# Altium footprint library Connector_IDC.PcbLib: 182 footprints (part 6 of 12)
Each footprint in its own frame and in the unit in brackets; x right, y up, seen from the top. Pads: shape width x height; smd on the part's side, far side on the other; paste and mask are expansions set on the pad; w line width, h text height; cw(c..) or ccw(c..) is an arc to the next point about the centre after c.
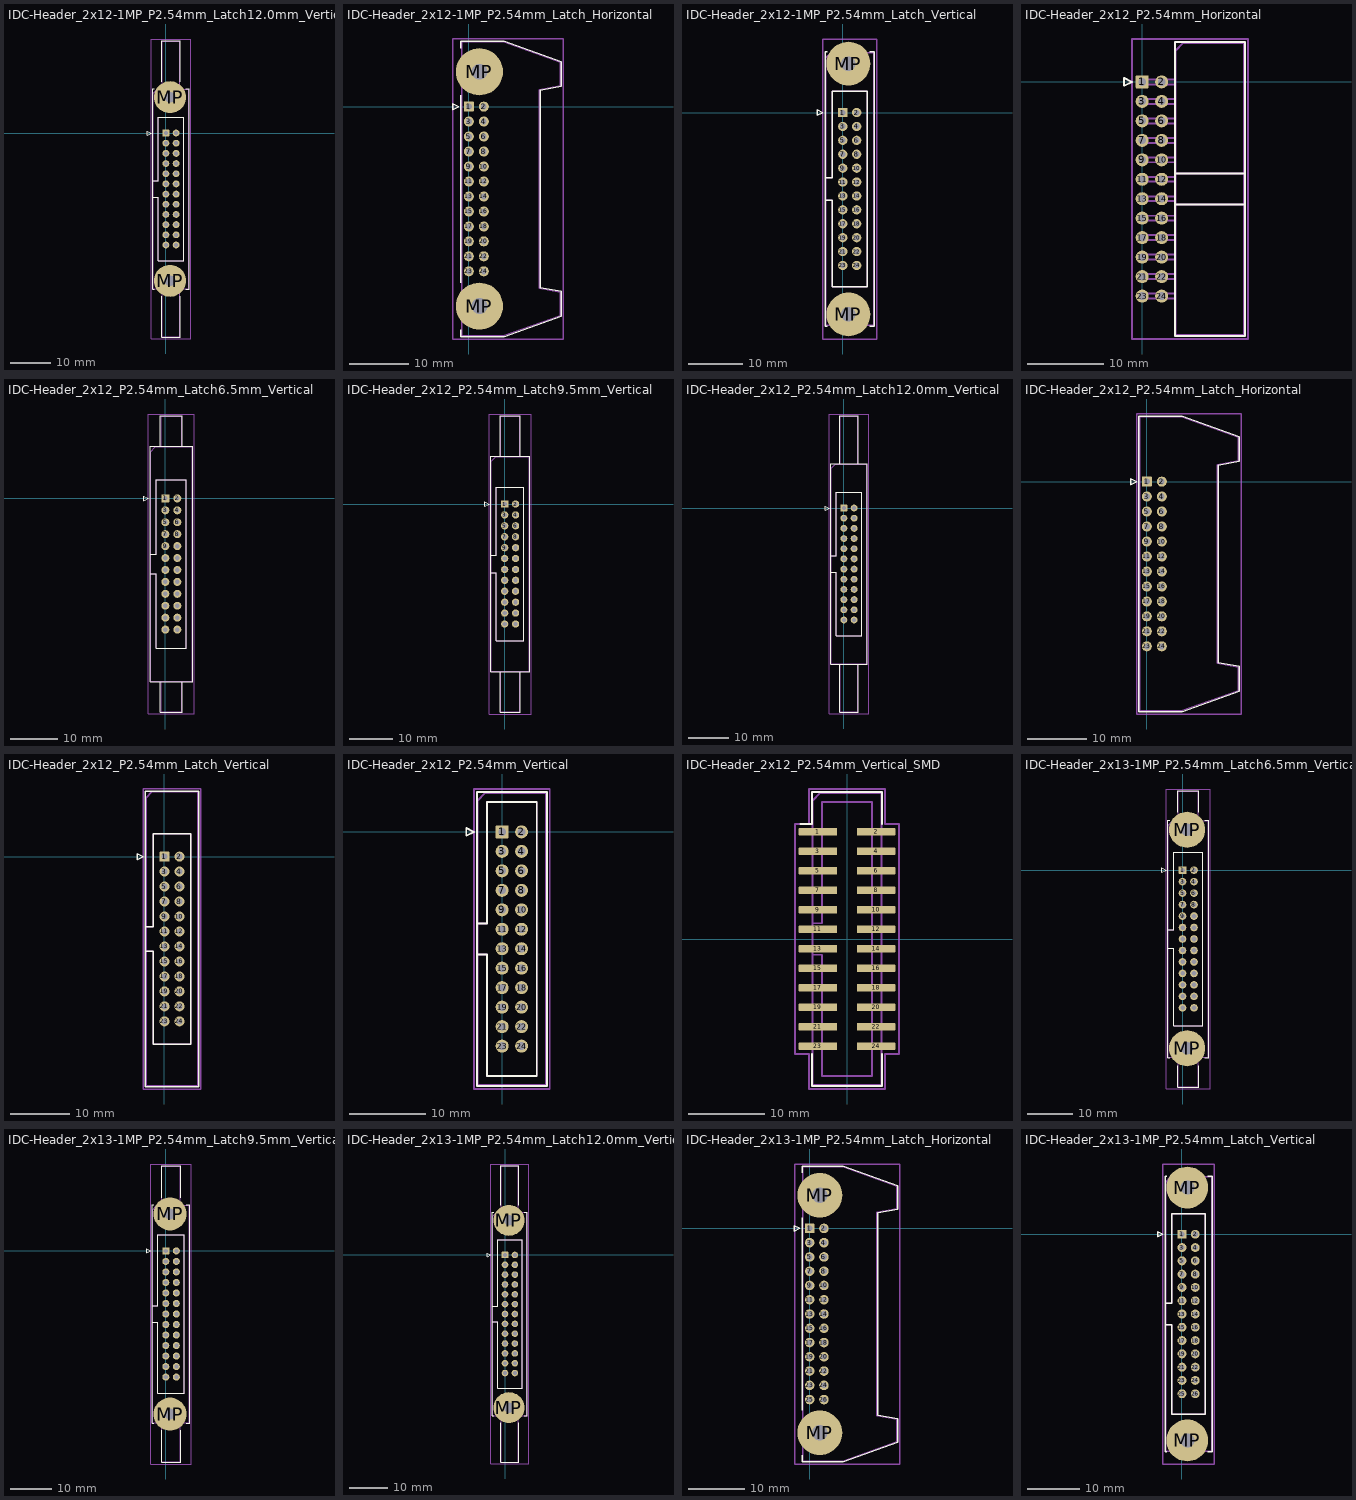
[diagram p5: the footprints below, top view; thin cyan lines are the x and y axes]

## IDC-Header_2x12-1MP_P2.54mm_Latch12.0mm_Vertical [mm]
pads (26):
  rrect15% 1.7x1.7 hole 1: 1(0,0)
  round 1.7 hole 1: 2(2.54,0) 3(0,-2.54) 4(2.54,-2.54) 5(0,-5.08) 6(2.54,-5.08) 7(0,-7.62) 8(2.54,-7.62) 9(0,-10.16) 10(2.54,-10.16) 11(0,-12.7) 12(2.54,-12.7) 13(0,-15.24) 14(2.54,-15.24) 15(0,-17.78) 16(2.54,-17.78) 17(0,-20.32) 18(2.54,-20.32) 19(0,-22.86) 20(2.54,-22.86) 21(0,-25.4) 22(2.54,-25.4) 23(0,-27.94) 24(2.54,-27.94)
  round 8 hole 2.69: MP(1.02,-36.88) MP(1.02,8.94)
F.SilkS:
  lines w0.254: -3.24,-16.02 -1.93,-16.02 -1.93,-31.86 4.47,-31.86 4.47,3.92 -1.93,3.92 -1.93,-11.92 -3.24,-11.92 ; -2.87,-39.02 -3.24,-39.02 -3.24,11.08 -2.87,11.08 ; -1.04,-40.77 -1.04,-51.02 3.58,-51.02 3.58,-40.77 ; -1.04,12.83 -1.04,23.08 3.58,23.08 3.58,12.83 ; 4.91,-39.02 5.78,-39.02 5.78,11.08 4.91,11.08 ; -4.63,-0.5 -3.63,0 -4.63,0.5 -4.63,-0.5
Top Assembly:
  lines w0.254: -3.13,-16.02 -1.93,-16.02 -1.93,-31.86 4.47,-31.86 4.47,3.92 -1.93,3.92 -1.93,-11.92 -3.13,-11.92 ; -0.93,-38.91 -0.93,-50.91 3.47,-50.91 3.47,-38.91 ; -0.93,10.97 -0.93,22.97 3.47,22.97 3.47,10.97 ; -3.13,-38.91 5.67,-38.91 5.67,10.97 -2.13,10.97 -3.13,9.97 -3.13,-38.91
  text "'.Designator'" at 2.11,-18.017 h1
Top Courtyard:
  lines w0.254: -3.63,-51.41 6.17,-51.41 6.17,23.47 -3.63,23.47 -3.63,-51.41
Top Designator:
  text ".Designator" at -6.848,-14.478 h1.52

## IDC-Header_2x12-1MP_P2.54mm_Latch_Horizontal [mm]
pads (26):
  rrect15% 1.7x1.7 hole 1: 1(0,0)
  round 1.7 hole 1: 2(2.54,0) 3(0,-2.54) 4(2.54,-2.54) 5(0,-5.08) 6(2.54,-5.08) 7(0,-7.62) 8(2.54,-7.62) 9(0,-10.16) 10(2.54,-10.16) 11(0,-12.7) 12(2.54,-12.7) 13(0,-15.24) 14(2.54,-15.24) 15(0,-17.78) 16(2.54,-17.78) 17(0,-20.32) 18(2.54,-20.32) 19(0,-22.86) 20(2.54,-22.86) 21(0,-25.4) 22(2.54,-25.4) 23(0,-27.94) 24(2.54,-27.94)
  round 8 hole 2.69: MP(1.8,-33.845) MP(1.8,5.905)
F.SilkS:
  lines w0.254: -1.35,-37.845 -1.35,-39.02 5.98,-39.02 15.64,-35.55 15.64,-31.36 12.08,-30.73 12.08,2.79 15.64,3.42 15.64,7.61 5.98,11.08 -1.35,11.08 -1.35,9.905 ; -1.35,-29.845 -1.35,1.905 ; -2.74,-0.5 -1.74,0 -2.74,0.5 -2.74,-0.5
Top Assembly:
  lines w0.254: -1.24,-38.91 5.87,-38.91 15.53,-35.44 15.53,-31.47 11.97,-30.84 11.97,2.9 15.53,3.53 15.53,7.5 5.87,10.97 -1.24,10.97 -1.24,-38.91
  text "'.Designator'" at 7.985,-18.017 h1
Top Courtyard:
  lines w0.254: -2.7,-39.42 16.03,-39.42 16.03,11.47 -2.7,11.47 -2.7,-39.42
Top Designator:
  text ".Designator" at -0.973,-14.483 h1.52

## IDC-Header_2x12-1MP_P2.54mm_Latch_Vertical [mm]
pads (26):
  rrect15% 1.7x1.7 hole 1: 1(0,0)
  round 1.7 hole 1: 2(2.54,0) 3(0,-2.54) 4(2.54,-2.54) 5(0,-5.08) 6(2.54,-5.08) 7(0,-7.62) 8(2.54,-7.62) 9(0,-10.16) 10(2.54,-10.16) 11(0,-12.7) 12(2.54,-12.7) 13(0,-15.24) 14(2.54,-15.24) 15(0,-17.78) 16(2.54,-17.78) 17(0,-20.32) 18(2.54,-20.32) 19(0,-22.86) 20(2.54,-22.86) 21(0,-25.4) 22(2.54,-25.4) 23(0,-27.94) 24(2.54,-27.94)
  round 8 hole 2.69: MP(1.02,-36.88) MP(1.02,8.94)
F.SilkS:
  lines w0.254: -3.24,-16.02 -1.93,-16.02 -1.93,-31.86 4.47,-31.86 4.47,3.92 -1.93,3.92 -1.93,-11.92 -3.24,-11.92 ; -2.87,-39.02 -3.24,-39.02 -3.24,11.08 -2.87,11.08 ; 4.91,-39.02 5.78,-39.02 5.78,11.08 4.91,11.08 ; -4.63,-0.5 -3.63,0 -4.63,0.5 -4.63,-0.5
Top Assembly:
  lines w0.254: -3.13,-16.02 -1.93,-16.02 -1.93,-31.86 4.47,-31.86 4.47,3.92 -1.93,3.92 -1.93,-11.92 -3.13,-11.92 ; -3.13,-38.91 5.67,-38.91 5.67,10.97 -2.13,10.97 -3.13,9.97 -3.13,-38.91
  text "'.Designator'" at 2.11,-18.017 h1
Top Courtyard:
  lines w0.254: -3.63,-41.38 6.17,-41.38 6.17,13.44 -3.63,13.44 -3.63,-41.38
Top Designator:
  text ".Designator" at -6.848,-14.478 h1.52

## IDC-Header_2x12_P2.54mm_Horizontal [mm]
pads (24):
  rrect15% 1.7x1.7 hole 1: 1(0,0)
  round 1.7 hole 1: 2(2.54,0) 3(0,-2.54) 4(2.54,-2.54) 5(0,-5.08) 6(2.54,-5.08) 7(0,-7.62) 8(2.54,-7.62) 9(0,-10.16) 10(2.54,-10.16) 11(0,-12.7) 12(2.54,-12.7) 13(0,-15.24) 14(2.54,-15.24) 15(0,-17.78) 16(2.54,-17.78) 17(0,-20.32) 18(2.54,-20.32) 19(0,-22.86) 20(2.54,-22.86) 21(0,-25.4) 22(2.54,-25.4) 23(0,-27.94) 24(2.54,-27.94)
F.SilkS:
  lines w0.254: 4.27,-16.02 13.39,-16.02 ; 4.27,-11.92 13.39,-11.92 ; -2.35,-0.5 -1.35,0 -2.35,0.5 -2.35,-0.5 ; 4.27,-33.15 13.39,-33.15 13.39,5.21 4.27,5.21 4.27,-33.15
Top Assembly:
  lines w0.254: 4.38,-28.26 -0.32,-28.26 -0.32,-27.62 4.38,-27.62 ; 4.38,-25.72 -0.32,-25.72 -0.32,-25.08 4.38,-25.08 ; 4.38,-23.18 -0.32,-23.18 -0.32,-22.54 4.38,-22.54 ; 4.38,-20.64 -0.32,-20.64 -0.32,-20 4.38,-20 ; 4.38,-18.1 -0.32,-18.1 -0.32,-17.46 4.38,-17.46 ; 4.38,-16.02 13.28,-16.02 ; 4.38,-15.56 -0.32,-15.56 -0.32,-14.92 4.38,-14.92 ; 4.38,-13.02 -0.32,-13.02 -0.32,-12.38 4.38,-12.38 ; 4.38,-11.92 13.28,-11.92 ; 4.38,-10.48 -0.32,-10.48 -0.32,-9.84 4.38,-9.84 ; 4.38,-7.94 -0.32,-7.94 -0.32,-7.3 4.38,-7.3 ; 4.38,-5.4 -0.32,-5.4 -0.32,-4.76 4.38,-4.76 ; 4.38,-2.86 -0.32,-2.86 -0.32,-2.22 4.38,-2.22 ; 4.38,-0.32 -0.32,-0.32 -0.32,0.32 4.38,0.32 ; 4.38,-33.04 13.28,-33.04 13.28,5.1 5.38,5.1 4.38,4.1 4.38,-33.04
  text "'.Designator'" at 9.67,-18.017 h1
Top Courtyard:
  lines w0.254: -1.35,-33.54 13.78,-33.54 13.78,5.6 -1.35,5.6 -1.35,-33.54
Top Designator:
  text ".Designator" at -1.903,-14.478 h1.52

## IDC-Header_2x12_P2.54mm_Latch6.5mm_Vertical [mm]
pads (24):
  rrect15% 1.7x1.7 hole 1: 1(0,0)
  round 1.7 hole 1: 2(2.54,0) 3(0,-2.54) 4(2.54,-2.54) 5(0,-5.08) 6(2.54,-5.08) 7(0,-7.62) 8(2.54,-7.62) 9(0,-10.16) 10(2.54,-10.16) 11(0,-12.7) 12(2.54,-12.7) 13(0,-15.24) 14(2.54,-15.24) 15(0,-17.78) 16(2.54,-17.78) 17(0,-20.32) 18(2.54,-20.32) 19(0,-22.86) 20(2.54,-22.86) 21(0,-25.4) 22(2.54,-25.4) 23(0,-27.94) 24(2.54,-27.94)
F.SilkS:
  lines w0.254: -3.24,-16.02 -1.93,-16.02 -1.93,-31.86 4.47,-31.86 4.47,3.92 -1.93,3.92 -1.93,-11.92 -3.24,-11.92 ; -1.04,-39.02 -1.04,-45.52 3.58,-45.52 3.58,-39.02 ; -1.04,11.08 -1.04,17.58 3.58,17.58 3.58,11.08 ; -4.63,-0.5 -3.63,0 -4.63,0.5 -4.63,-0.5 ; -3.24,-39.02 5.78,-39.02 5.78,11.08 -3.24,11.08 -3.24,-39.02
Top Assembly:
  lines w0.254: -3.13,-16.02 -1.93,-16.02 -1.93,-31.86 4.47,-31.86 4.47,3.92 -1.93,3.92 -1.93,-11.92 -3.13,-11.92 ; -0.93,-38.91 -0.93,-45.41 3.47,-45.41 3.47,-38.91 ; -0.93,10.97 -0.93,17.47 3.47,17.47 3.47,10.97 ; -3.13,-38.91 5.67,-38.91 5.67,10.97 -2.13,10.97 -3.13,9.97 -3.13,-38.91
  text "'.Designator'" at 2.11,-18.017 h1
Top Courtyard:
  lines w0.254: -3.63,-45.91 6.17,-45.91 6.17,17.97 -3.63,17.97 -3.63,-45.91
Top Designator:
  text ".Designator" at -6.848,-14.478 h1.52

## IDC-Header_2x12_P2.54mm_Latch9.5mm_Vertical [mm]
pads (24):
  rrect15% 1.7x1.7 hole 1: 1(0,0)
  round 1.7 hole 1: 2(2.54,0) 3(0,-2.54) 4(2.54,-2.54) 5(0,-5.08) 6(2.54,-5.08) 7(0,-7.62) 8(2.54,-7.62) 9(0,-10.16) 10(2.54,-10.16) 11(0,-12.7) 12(2.54,-12.7) 13(0,-15.24) 14(2.54,-15.24) 15(0,-17.78) 16(2.54,-17.78) 17(0,-20.32) 18(2.54,-20.32) 19(0,-22.86) 20(2.54,-22.86) 21(0,-25.4) 22(2.54,-25.4) 23(0,-27.94) 24(2.54,-27.94)
F.SilkS:
  lines w0.254: -3.24,-16.02 -1.93,-16.02 -1.93,-31.86 4.47,-31.86 4.47,3.92 -1.93,3.92 -1.93,-11.92 -3.24,-11.92 ; -1.04,-39.02 -1.04,-48.52 3.58,-48.52 3.58,-39.02 ; -1.04,11.08 -1.04,20.58 3.58,20.58 3.58,11.08 ; -4.63,-0.5 -3.63,0 -4.63,0.5 -4.63,-0.5 ; -3.24,-39.02 5.78,-39.02 5.78,11.08 -3.24,11.08 -3.24,-39.02
Top Assembly:
  lines w0.254: -3.13,-16.02 -1.93,-16.02 -1.93,-31.86 4.47,-31.86 4.47,3.92 -1.93,3.92 -1.93,-11.92 -3.13,-11.92 ; -0.93,-38.91 -0.93,-48.41 3.47,-48.41 3.47,-38.91 ; -0.93,10.97 -0.93,20.47 3.47,20.47 3.47,10.97 ; -3.13,-38.91 5.67,-38.91 5.67,10.97 -2.13,10.97 -3.13,9.97 -3.13,-38.91
  text "'.Designator'" at 2.11,-18.017 h1
Top Courtyard:
  lines w0.254: -3.63,-48.91 6.17,-48.91 6.17,20.97 -3.63,20.97 -3.63,-48.91
Top Designator:
  text ".Designator" at -6.848,-14.478 h1.52

## IDC-Header_2x12_P2.54mm_Latch12.0mm_Vertical [mm]
pads (24):
  rrect15% 1.7x1.7 hole 1: 1(0,0)
  round 1.7 hole 1: 2(2.54,0) 3(0,-2.54) 4(2.54,-2.54) 5(0,-5.08) 6(2.54,-5.08) 7(0,-7.62) 8(2.54,-7.62) 9(0,-10.16) 10(2.54,-10.16) 11(0,-12.7) 12(2.54,-12.7) 13(0,-15.24) 14(2.54,-15.24) 15(0,-17.78) 16(2.54,-17.78) 17(0,-20.32) 18(2.54,-20.32) 19(0,-22.86) 20(2.54,-22.86) 21(0,-25.4) 22(2.54,-25.4) 23(0,-27.94) 24(2.54,-27.94)
F.SilkS:
  lines w0.254: -3.24,-16.02 -1.93,-16.02 -1.93,-31.86 4.47,-31.86 4.47,3.92 -1.93,3.92 -1.93,-11.92 -3.24,-11.92 ; -1.04,-39.02 -1.04,-51.02 3.58,-51.02 3.58,-39.02 ; -1.04,11.08 -1.04,23.08 3.58,23.08 3.58,11.08 ; -4.63,-0.5 -3.63,0 -4.63,0.5 -4.63,-0.5 ; -3.24,-39.02 5.78,-39.02 5.78,11.08 -3.24,11.08 -3.24,-39.02
Top Assembly:
  lines w0.254: -3.13,-16.02 -1.93,-16.02 -1.93,-31.86 4.47,-31.86 4.47,3.92 -1.93,3.92 -1.93,-11.92 -3.13,-11.92 ; -0.93,-38.91 -0.93,-50.91 3.47,-50.91 3.47,-38.91 ; -0.93,10.97 -0.93,22.97 3.47,22.97 3.47,10.97 ; -3.13,-38.91 5.67,-38.91 5.67,10.97 -2.13,10.97 -3.13,9.97 -3.13,-38.91
  text "'.Designator'" at 2.11,-18.017 h1
Top Courtyard:
  lines w0.254: -3.63,-51.41 6.17,-51.41 6.17,23.47 -3.63,23.47 -3.63,-51.41
Top Designator:
  text ".Designator" at -6.848,-14.478 h1.52

## IDC-Header_2x12_P2.54mm_Latch_Horizontal [mm]
pads (24):
  rrect15% 1.7x1.7 hole 1: 1(0,0)
  round 1.7 hole 1: 2(2.54,0) 3(0,-2.54) 4(2.54,-2.54) 5(0,-5.08) 6(2.54,-5.08) 7(0,-7.62) 8(2.54,-7.62) 9(0,-10.16) 10(2.54,-10.16) 11(0,-12.7) 12(2.54,-12.7) 13(0,-15.24) 14(2.54,-15.24) 15(0,-17.78) 16(2.54,-17.78) 17(0,-20.32) 18(2.54,-20.32) 19(0,-22.86) 20(2.54,-22.86) 21(0,-25.4) 22(2.54,-25.4) 23(0,-27.94) 24(2.54,-27.94)
F.SilkS:
  lines w0.254: -2.74,-0.5 -1.74,0 -2.74,0.5 -2.74,-0.5 ; -1.35,-39.02 5.98,-39.02 15.64,-35.55 15.64,-31.36 12.08,-30.73 12.08,2.79 15.64,3.42 15.64,7.61 5.98,11.08 -1.35,11.08 -1.35,-39.02
Top Assembly:
  lines w0.254: -1.24,-38.91 5.87,-38.91 15.53,-35.44 15.53,-31.47 11.97,-30.84 11.97,2.9 15.53,3.53 15.53,7.5 5.87,10.97 -1.24,10.97 -1.24,-38.91
  text "'.Designator'" at 7.985,-18.017 h1
Top Courtyard:
  lines w0.254: -1.74,-39.42 16.03,-39.42 16.03,11.47 -1.74,11.47 -1.74,-39.42
Top Designator:
  text ".Designator" at -0.973,-14.483 h1.52

## IDC-Header_2x12_P2.54mm_Latch_Vertical [mm]
pads (24):
  rrect15% 1.7x1.7 hole 1: 1(0,0)
  round 1.7 hole 1: 2(2.54,0) 3(0,-2.54) 4(2.54,-2.54) 5(0,-5.08) 6(2.54,-5.08) 7(0,-7.62) 8(2.54,-7.62) 9(0,-10.16) 10(2.54,-10.16) 11(0,-12.7) 12(2.54,-12.7) 13(0,-15.24) 14(2.54,-15.24) 15(0,-17.78) 16(2.54,-17.78) 17(0,-20.32) 18(2.54,-20.32) 19(0,-22.86) 20(2.54,-22.86) 21(0,-25.4) 22(2.54,-25.4) 23(0,-27.94) 24(2.54,-27.94)
F.SilkS:
  lines w0.254: -3.24,-16.02 -1.93,-16.02 -1.93,-31.86 4.47,-31.86 4.47,3.92 -1.93,3.92 -1.93,-11.92 -3.24,-11.92 ; -4.63,-0.5 -3.63,0 -4.63,0.5 -4.63,-0.5 ; -3.24,-39.02 5.78,-39.02 5.78,11.08 -3.24,11.08 -3.24,-39.02
Top Assembly:
  lines w0.254: -3.13,-16.02 -1.93,-16.02 -1.93,-31.86 4.47,-31.86 4.47,3.92 -1.93,3.92 -1.93,-11.92 -3.13,-11.92 ; -3.13,-38.91 5.67,-38.91 5.67,10.97 -2.13,10.97 -3.13,9.97 -3.13,-38.91
  text "'.Designator'" at 2.11,-18.017 h1
Top Courtyard:
  lines w0.254: -3.63,-39.42 6.17,-39.42 6.17,11.47 -3.63,11.47 -3.63,-39.42
Top Designator:
  text ".Designator" at -6.848,-14.483 h1.52

## IDC-Header_2x12_P2.54mm_Vertical [mm]
pads (24):
  rrect15% 1.7x1.7 hole 1: 1(0,0)
  round 1.7 hole 1: 2(2.54,0) 3(0,-2.54) 4(2.54,-2.54) 5(0,-5.08) 6(2.54,-5.08) 7(0,-7.62) 8(2.54,-7.62) 9(0,-10.16) 10(2.54,-10.16) 11(0,-12.7) 12(2.54,-12.7) 13(0,-15.24) 14(2.54,-15.24) 15(0,-17.78) 16(2.54,-17.78) 17(0,-20.32) 18(2.54,-20.32) 19(0,-22.86) 20(2.54,-22.86) 21(0,-25.4) 22(2.54,-25.4) 23(0,-27.94) 24(2.54,-27.94)
F.SilkS:
  lines w0.254: -3.29,-16.02 -1.98,-16.02 -1.98,-31.85 4.52,-31.85 4.52,3.91 -1.98,3.91 -1.98,-11.92 -3.29,-11.92 ; -4.68,-0.5 -3.68,0 -4.68,0.5 -4.68,-0.5 ; -3.29,-33.15 5.83,-33.15 5.83,5.21 -3.29,5.21 -3.29,-33.15
Top Assembly:
  lines w0.254: -3.18,-16.02 -1.98,-16.02 -1.98,-31.85 4.52,-31.85 4.52,3.91 -1.98,3.91 -1.98,-11.92 -3.18,-11.92 ; -3.18,-33.04 5.72,-33.04 5.72,5.1 -2.18,5.1 -3.18,4.1 -3.18,-33.04
  text "'.Designator'" at 2.11,-18.017 h1
Top Courtyard:
  lines w0.254: -3.68,-33.54 6.22,-33.54 6.22,5.6 -3.68,5.6 -3.68,-33.54
Top Designator:
  text ".Designator" at -6.848,-14.478 h1.52

## IDC-Header_2x12_P2.54mm_Vertical_SMD [mm]
pads (24):
  rrect25% 5x1.02 smd: 1(-3.8,13.97) 2(3.8,13.97) 3(-3.8,11.43) 4(3.8,11.43) 5(-3.8,8.89) 6(3.8,8.89) 7(-3.8,6.35) 8(3.8,6.35) 9(-3.8,3.81) 10(3.8,3.81) 11(-3.8,1.27) 12(3.8,1.27) 13(-3.8,-1.27) 14(3.8,-1.27) 15(-3.8,-3.81) 16(3.8,-3.81) 17(-3.8,-6.35) 18(3.8,-6.35) 19(-3.8,-8.89) 20(3.8,-8.89) 21(-3.8,-11.43) 22(3.8,-11.43) 23(-3.8,-13.97) 24(3.8,-13.97)
F.SilkS:
  lines w0.254: -6.085,14.98 -4.585,14.98 -4.585,19.16 4.585,19.16 4.585,14.98 ; -4.585,-14.98 -4.585,-19.16 4.585,-19.16 4.585,-14.98
Top Assembly:
  lines w0.254: -4.475,-2.05 -3.275,-2.05 -3.275,-17.85 3.275,-17.85 3.275,17.85 -3.275,17.85 -3.275,2.05 -4.475,2.05 ; -4.475,-19.05 4.475,-19.05 4.475,19.05 -3.475,19.05 -4.475,18.05 -4.475,-19.05
  text "'.Designator'" at 0.84,-4.047 h1
Top Courtyard:
  lines w0.254: -6.8,-14.98 -4.98,-14.98 -4.98,-19.55 4.98,-19.55 4.98,-14.98 6.8,-14.98 6.8,14.98 4.98,14.98 4.98,19.55 -4.98,19.55 -4.98,14.98 -6.8,14.98 -6.8,-14.98
Top Designator:
  text ".Designator" at -7.618,-0.508 h1.52

## IDC-Header_2x13-1MP_P2.54mm_Latch6.5mm_Vertical [mm]
pads (28):
  rrect15% 1.7x1.7 hole 1: 1(0,0)
  round 1.7 hole 1: 2(2.54,0) 3(0,-2.54) 4(2.54,-2.54) 5(0,-5.08) 6(2.54,-5.08) 7(0,-7.62) 8(2.54,-7.62) 9(0,-10.16) 10(2.54,-10.16) 11(0,-12.7) 12(2.54,-12.7) 13(0,-15.24) 14(2.54,-15.24) 15(0,-17.78) 16(2.54,-17.78) 17(0,-20.32) 18(2.54,-20.32) 19(0,-22.86) 20(2.54,-22.86) 21(0,-25.4) 22(2.54,-25.4) 23(0,-27.94) 24(2.54,-27.94) 25(0,-30.48) 26(2.54,-30.48)
  round 8 hole 2.69: MP(1.02,-39.42) MP(1.02,8.94)
F.SilkS:
  lines w0.254: -3.24,-17.29 -1.93,-17.29 -1.93,-34.4 4.47,-34.4 4.47,3.92 -1.93,3.92 -1.93,-13.19 -3.24,-13.19 ; -2.87,-41.56 -3.24,-41.56 -3.24,11.08 -2.87,11.08 ; -1.04,-43.31 -1.04,-48.06 3.58,-48.06 3.58,-43.31 ; -1.04,12.83 -1.04,17.58 3.58,17.58 3.58,12.83 ; 4.91,-41.56 5.78,-41.56 5.78,11.08 4.91,11.08 ; -4.63,-0.5 -3.63,0 -4.63,0.5 -4.63,-0.5
Top Assembly:
  lines w0.254: -3.13,-17.29 -1.93,-17.29 -1.93,-34.4 4.47,-34.4 4.47,3.92 -1.93,3.92 -1.93,-13.19 -3.13,-13.19 ; -0.93,-41.45 -0.93,-47.95 3.47,-47.95 3.47,-41.45 ; -0.93,10.97 -0.93,17.47 3.47,17.47 3.47,10.97 ; -3.13,-41.45 5.67,-41.45 5.67,10.97 -2.13,10.97 -3.13,9.97 -3.13,-41.45
  text "'.Designator'" at 2.11,-19.287 h1
Top Courtyard:
  lines w0.254: -3.63,-48.45 6.17,-48.45 6.17,17.97 -3.63,17.97 -3.63,-48.45
Top Designator:
  text ".Designator" at -6.848,-15.748 h1.52

## IDC-Header_2x13-1MP_P2.54mm_Latch9.5mm_Vertical [mm]
pads (28):
  rrect15% 1.7x1.7 hole 1: 1(0,0)
  round 1.7 hole 1: 2(2.54,0) 3(0,-2.54) 4(2.54,-2.54) 5(0,-5.08) 6(2.54,-5.08) 7(0,-7.62) 8(2.54,-7.62) 9(0,-10.16) 10(2.54,-10.16) 11(0,-12.7) 12(2.54,-12.7) 13(0,-15.24) 14(2.54,-15.24) 15(0,-17.78) 16(2.54,-17.78) 17(0,-20.32) 18(2.54,-20.32) 19(0,-22.86) 20(2.54,-22.86) 21(0,-25.4) 22(2.54,-25.4) 23(0,-27.94) 24(2.54,-27.94) 25(0,-30.48) 26(2.54,-30.48)
  round 8 hole 2.69: MP(1.02,-39.42) MP(1.02,8.94)
F.SilkS:
  lines w0.254: -3.24,-17.29 -1.93,-17.29 -1.93,-34.4 4.47,-34.4 4.47,3.92 -1.93,3.92 -1.93,-13.19 -3.24,-13.19 ; -2.87,-41.56 -3.24,-41.56 -3.24,11.08 -2.87,11.08 ; -1.04,-43.31 -1.04,-51.06 3.58,-51.06 3.58,-43.31 ; -1.04,12.83 -1.04,20.58 3.58,20.58 3.58,12.83 ; 4.91,-41.56 5.78,-41.56 5.78,11.08 4.91,11.08 ; -4.63,-0.5 -3.63,0 -4.63,0.5 -4.63,-0.5
Top Assembly:
  lines w0.254: -3.13,-17.29 -1.93,-17.29 -1.93,-34.4 4.47,-34.4 4.47,3.92 -1.93,3.92 -1.93,-13.19 -3.13,-13.19 ; -0.93,-41.45 -0.93,-50.95 3.47,-50.95 3.47,-41.45 ; -0.93,10.97 -0.93,20.47 3.47,20.47 3.47,10.97 ; -3.13,-41.45 5.67,-41.45 5.67,10.97 -2.13,10.97 -3.13,9.97 -3.13,-41.45
  text "'.Designator'" at 2.11,-19.287 h1
Top Courtyard:
  lines w0.254: -3.63,-51.45 6.17,-51.45 6.17,20.97 -3.63,20.97 -3.63,-51.45
Top Designator:
  text ".Designator" at -6.848,-15.748 h1.52

## IDC-Header_2x13-1MP_P2.54mm_Latch12.0mm_Vertical [mm]
pads (28):
  rrect15% 1.7x1.7 hole 1: 1(0,0)
  round 1.7 hole 1: 2(2.54,0) 3(0,-2.54) 4(2.54,-2.54) 5(0,-5.08) 6(2.54,-5.08) 7(0,-7.62) 8(2.54,-7.62) 9(0,-10.16) 10(2.54,-10.16) 11(0,-12.7) 12(2.54,-12.7) 13(0,-15.24) 14(2.54,-15.24) 15(0,-17.78) 16(2.54,-17.78) 17(0,-20.32) 18(2.54,-20.32) 19(0,-22.86) 20(2.54,-22.86) 21(0,-25.4) 22(2.54,-25.4) 23(0,-27.94) 24(2.54,-27.94) 25(0,-30.48) 26(2.54,-30.48)
  round 8 hole 2.69: MP(1.02,-39.42) MP(1.02,8.94)
F.SilkS:
  lines w0.254: -3.24,-17.29 -1.93,-17.29 -1.93,-34.4 4.47,-34.4 4.47,3.92 -1.93,3.92 -1.93,-13.19 -3.24,-13.19 ; -2.87,-41.56 -3.24,-41.56 -3.24,11.08 -2.87,11.08 ; -1.04,-43.31 -1.04,-53.56 3.58,-53.56 3.58,-43.31 ; -1.04,12.83 -1.04,23.08 3.58,23.08 3.58,12.83 ; 4.91,-41.56 5.78,-41.56 5.78,11.08 4.91,11.08 ; -4.63,-0.5 -3.63,0 -4.63,0.5 -4.63,-0.5
Top Assembly:
  lines w0.254: -3.13,-17.29 -1.93,-17.29 -1.93,-34.4 4.47,-34.4 4.47,3.92 -1.93,3.92 -1.93,-13.19 -3.13,-13.19 ; -0.93,-41.45 -0.93,-53.45 3.47,-53.45 3.47,-41.45 ; -0.93,10.97 -0.93,22.97 3.47,22.97 3.47,10.97 ; -3.13,-41.45 5.67,-41.45 5.67,10.97 -2.13,10.97 -3.13,9.97 -3.13,-41.45
  text "'.Designator'" at 2.11,-19.287 h1
Top Courtyard:
  lines w0.254: -3.63,-53.95 6.17,-53.95 6.17,23.47 -3.63,23.47 -3.63,-53.95
Top Designator:
  text ".Designator" at -6.848,-15.748 h1.52

## IDC-Header_2x13-1MP_P2.54mm_Latch_Horizontal [mm]
pads (28):
  rrect15% 1.7x1.7 hole 1: 1(0,0)
  round 1.7 hole 1: 2(2.54,0) 3(0,-2.54) 4(2.54,-2.54) 5(0,-5.08) 6(2.54,-5.08) 7(0,-7.62) 8(2.54,-7.62) 9(0,-10.16) 10(2.54,-10.16) 11(0,-12.7) 12(2.54,-12.7) 13(0,-15.24) 14(2.54,-15.24) 15(0,-17.78) 16(2.54,-17.78) 17(0,-20.32) 18(2.54,-20.32) 19(0,-22.86) 20(2.54,-22.86) 21(0,-25.4) 22(2.54,-25.4) 23(0,-27.94) 24(2.54,-27.94) 25(0,-30.48) 26(2.54,-30.48)
  round 8 hole 2.69: MP(1.8,-36.385) MP(1.8,5.905)
F.SilkS:
  lines w0.254: -1.35,-40.385 -1.35,-41.56 5.98,-41.56 15.64,-38.09 15.64,-33.9 12.08,-33.27 12.08,2.79 15.64,3.42 15.64,7.61 5.98,11.08 -1.35,11.08 -1.35,9.905 ; -1.35,-32.385 -1.35,1.905 ; -2.74,-0.5 -1.74,0 -2.74,0.5 -2.74,-0.5
Top Assembly:
  lines w0.254: -1.24,-41.45 5.87,-41.45 15.53,-37.98 15.53,-34.01 11.97,-33.38 11.97,2.9 15.53,3.53 15.53,7.5 5.87,10.97 -1.24,10.97 -1.24,-41.45
  text "'.Designator'" at 7.985,-19.287 h1
Top Courtyard:
  lines w0.254: -2.7,-41.95 16.03,-41.95 16.03,11.47 -2.7,11.47 -2.7,-41.95
Top Designator:
  text ".Designator" at -0.973,-15.748 h1.52

## IDC-Header_2x13-1MP_P2.54mm_Latch_Vertical [mm]
pads (28):
  rrect15% 1.7x1.7 hole 1: 1(0,0)
  round 1.7 hole 1: 2(2.54,0) 3(0,-2.54) 4(2.54,-2.54) 5(0,-5.08) 6(2.54,-5.08) 7(0,-7.62) 8(2.54,-7.62) 9(0,-10.16) 10(2.54,-10.16) 11(0,-12.7) 12(2.54,-12.7) 13(0,-15.24) 14(2.54,-15.24) 15(0,-17.78) 16(2.54,-17.78) 17(0,-20.32) 18(2.54,-20.32) 19(0,-22.86) 20(2.54,-22.86) 21(0,-25.4) 22(2.54,-25.4) 23(0,-27.94) 24(2.54,-27.94) 25(0,-30.48) 26(2.54,-30.48)
  round 8 hole 2.69: MP(1.02,-39.42) MP(1.02,8.94)
F.SilkS:
  lines w0.254: -3.24,-17.29 -1.93,-17.29 -1.93,-34.4 4.47,-34.4 4.47,3.92 -1.93,3.92 -1.93,-13.19 -3.24,-13.19 ; -2.87,-41.56 -3.24,-41.56 -3.24,11.08 -2.87,11.08 ; 4.91,-41.56 5.78,-41.56 5.78,11.08 4.91,11.08 ; -4.63,-0.5 -3.63,0 -4.63,0.5 -4.63,-0.5
Top Assembly:
  lines w0.254: -3.13,-17.29 -1.93,-17.29 -1.93,-34.4 4.47,-34.4 4.47,3.92 -1.93,3.92 -1.93,-13.19 -3.13,-13.19 ; -3.13,-41.45 5.67,-41.45 5.67,10.97 -2.13,10.97 -3.13,9.97 -3.13,-41.45
  text "'.Designator'" at 2.11,-19.287 h1
Top Courtyard:
  lines w0.254: -3.63,-43.92 6.17,-43.92 6.17,13.44 -3.63,13.44 -3.63,-43.92
Top Designator:
  text ".Designator" at -6.848,-15.748 h1.52